# Altium schematic symbol library BMS Interface Board.SchLib: 8 symbols
Pins are listed as number, name and electrical type; pins without a type are passive.

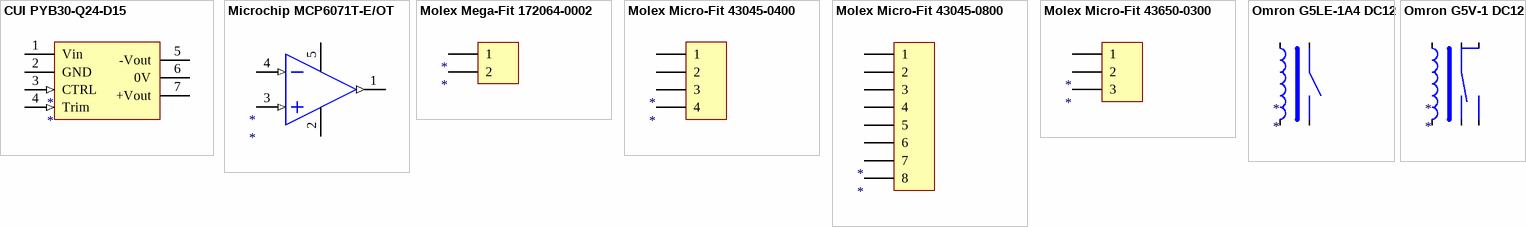
[diagram p0: symbols CUI PYB30-Q24-D15 to Omron G5V-1 DC12]

## CUI PYB30-Q24-D15
designator *
+/-15V 1A DC-DC Converter; 102-2941-ND: Digi-Key Part Number
footprint CUI PYB30-Series (+/-15V 1A DC-DC Converter)
pins: 1 Vin (power), 2 GND (power), 3 CTRL (in), 4 Trim (in), 5 -Vout (power), 6 0V (power), 7 +Vout (power)

## Microchip MCP6071T-E/OT
designator *
Low Offset Op-Amp; Digi-Key Part Number: MCP6071T-E/OTCT-ND
footprint Microchip MCP6071T-E/OT (SOT-23-5) (Low Offset Op-Amp)
pins: 1 Vout (out), 2 VSS (power), 3 Vin- (in), 4 Vin+ (in), 5 VDD (power)

## Molex Mega-Fit 172064-0002
designator *
2-Pin Right-Angle Locking Male Header; Digi-Key Part Number: WM10391-ND
footprint Molex Mega-Fit 172064-0002 (2-Pin Right-Angle Locking Male Header)
pins: 1, 2

## Molex Micro-Fit 43045-0400
designator *
4-Pin Right-Angle Locking Male Header; Digi-Key Part Number: WM1814-ND
footprint Molex Micro-Fit 43045-0400 (4-Pin Right-Angle Locking Male Header)
pins: 1, 2, 3, 4

## Molex Micro-Fit 43045-0800
designator *
8-Pin Right-Angle Locking Male Header; Digi-Key Part Number: WM1816-ND
footprint Molex Micro-Fit 43045-0800 (8-Pin Right-Angle Locking Male Header)
pins: 1, 2, 3, 4, 5, 6, 7, 8

## Molex Micro-Fit 43650-0300
designator *
3-Pin Right-Angle Locking Male Header; Digi-Key Part Number: WM1861-ND
footprint Molex Micro-Fit 43650-0300 (3-Pin Right-Angle Locking Male Header)
pins: 1, 2, 3

## Omron G5LE-1A4 DC12
designator *
12VDC 10A SPST-NO Relay; Digi-Key Part Number: Z2352-ND
footprint Omron G5LE-1A4 DC12 (12VDC 10A SPST-NO Relay)
pins: 1 Common, 2 Coil, 3 N/O, 4 Coil

## Omron G5V-1 DC12
designator *
12VDC 1A SPDT Relay; Digi-Key Part Number: Z774-ND
pins: 1 N/C, 2 Coil, 3 Common, 4 Common, 5 Coil, 6 N/O